# Altium footprint library resonator.PcbLib: 2 footprints
Each footprint in its own frame and in the unit in brackets; x right, y up, seen from the top. Pads: shape width x height; smd on the part's side, far side on the other; paste and mask are expansions set on the pad; w line width, h text height; cw(c..) or ccw(c..) is an arc to the next point about the centre after c.
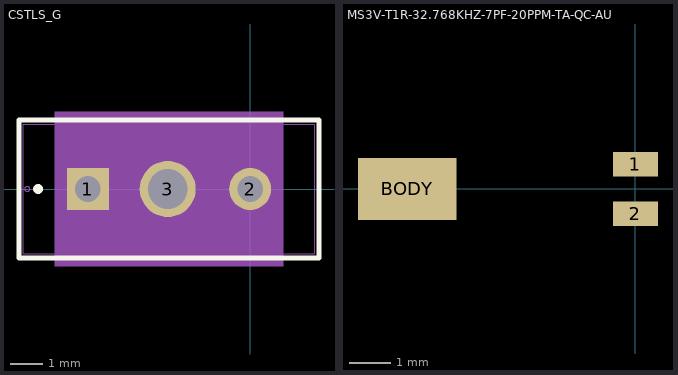
[diagram p0: the footprints below, top view; thin cyan lines are the x and y axes]

## CSTLS_G [mil]
pads (3):
  rect 51x51 hole 31 mask+0: 1(-196.85,0)
  round 51 hole 31 mask+0: 2(0,0)
  round 68 hole 48: 3(-100,0)
Top Overlay:
  circle w6: c-257.35,0 r3
  lines w6: -280.43,-83.5 83.57,-83.5 83.57,83.5 -280.43,83.5 -280.43,-83.5
Mechanical 5:
  region: 40.5,-93.5 -237.35,-93.5 -237.35,93.5 40.5,93.5
Mechanical 13:
  circle w0: c-270.43,0 r3
  lines w1: -275.43,-78.5 78.57,-78.5 78.57,78.5 -275.43,78.5 -275.43,-78.5
Mechanical 15:
  lines w6: -232.35,-35.5 -232.35,35.5 ; 35.5,-35.5 35.5,35.5
3D body: height 10, standoff 0, extent 0,0 10,10

## MS3V-T1R-32.768KHZ-7PF-20PPM-TA-QC-AU [mm]
pads (3):
  rect 1.1x0.6 smd: 1(0,0.6) 2(0,-0.6)
  rect 2.4x1.5 smd: BODY(-5.55,0)
3D body "Quartz MS3V-T1R 32768 Hz.step": height 1.48, standoff 0, extent -6.54,-0.762 0.16,0.718